# Altium footprint library Y2安规电容.PcbLib: 2 footprints
Each footprint in its own frame and in the unit in brackets; x right, y up, seen from the top. Pads: shape width x height; smd on the part's side, far side on the other; paste and mask are expansions set on the pad; w line width, h text height; cw(c..) or ccw(c..) is an arc to the next point about the centre after c.
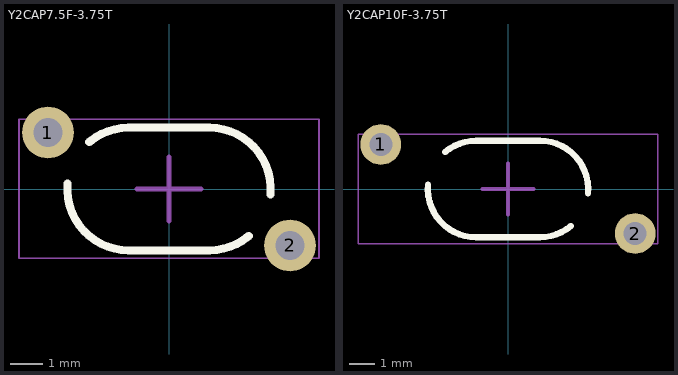
[diagram p0: the footprints below, top view; thin cyan lines are the x and y axes]

## Y2CAP7.5F-3.75T [mm] "Y2 7.5mm脚距，4mm厚"
height 9
pads (2):
  round 1.6 hole 0.9: 1(-3.75,1.75) 2(3.75,-1.75)
Top Overlay:
  lines w0.25: -3.143,0.166 ccw(c-1.25,0) -1.25,-1.9 1.25,-1.9 ccw(c1.25,0) 2.471,-1.455 ; -2.471,1.455 cw(c-1.25,0) -1.25,1.9 1.25,1.9 cw(c1.25,0) 3.143,-0.166
Mechanical 13:
  lines w0.05: -4.648,-2.146 -4.648,2.159 4.648,2.159 4.648,-2.146 -4.648,-2.146
Mechanical 15:
  lines w0.15: -1,0 1,0 ; 0,-1 0,1
3D body: height 10.85, standoff -2.85, extent -4.648,-2.146 4.648,2.159

## Y2CAP10F-3.75T [mm] "Y2 10mm脚距，4mm厚"
height 9
pads (2):
  round 1.6 hole 0.9: 1(-5,1.75) 2(5,-1.75)
Top Overlay:
  lines w0.25: -3.143,0.166 ccw(c-1.25,0) -1.25,-1.9 1.25,-1.9 ccw(c1.25,0) 2.471,-1.455 ; -2.471,1.455 cw(c-1.25,0) -1.25,1.9 1.25,1.9 cw(c1.25,0) 3.143,-0.166
Mechanical 13:
  lines w0.05: -5.898,-2.146 -5.898,2.159 5.898,2.159 5.898,-2.146 -5.898,-2.146
Mechanical 15:
  lines w0.15: -1,0 1,0 ; 0,-1 0,1
3D body: height 10.85, standoff -2.85, extent -5.898,-2.146 5.898,2.159